# Altium footprint library Relay_THT.PcbLib: 117 footprints (part 7 of 8)
Each footprint in its own frame and in the unit in brackets; x right, y up, seen from the top. Pads: shape width x height; smd on the part's side, far side on the other; paste and mask are expansions set on the pad; w line width, h text height; cw(c..) or ccw(c..) is an arc to the next point about the centre after c.
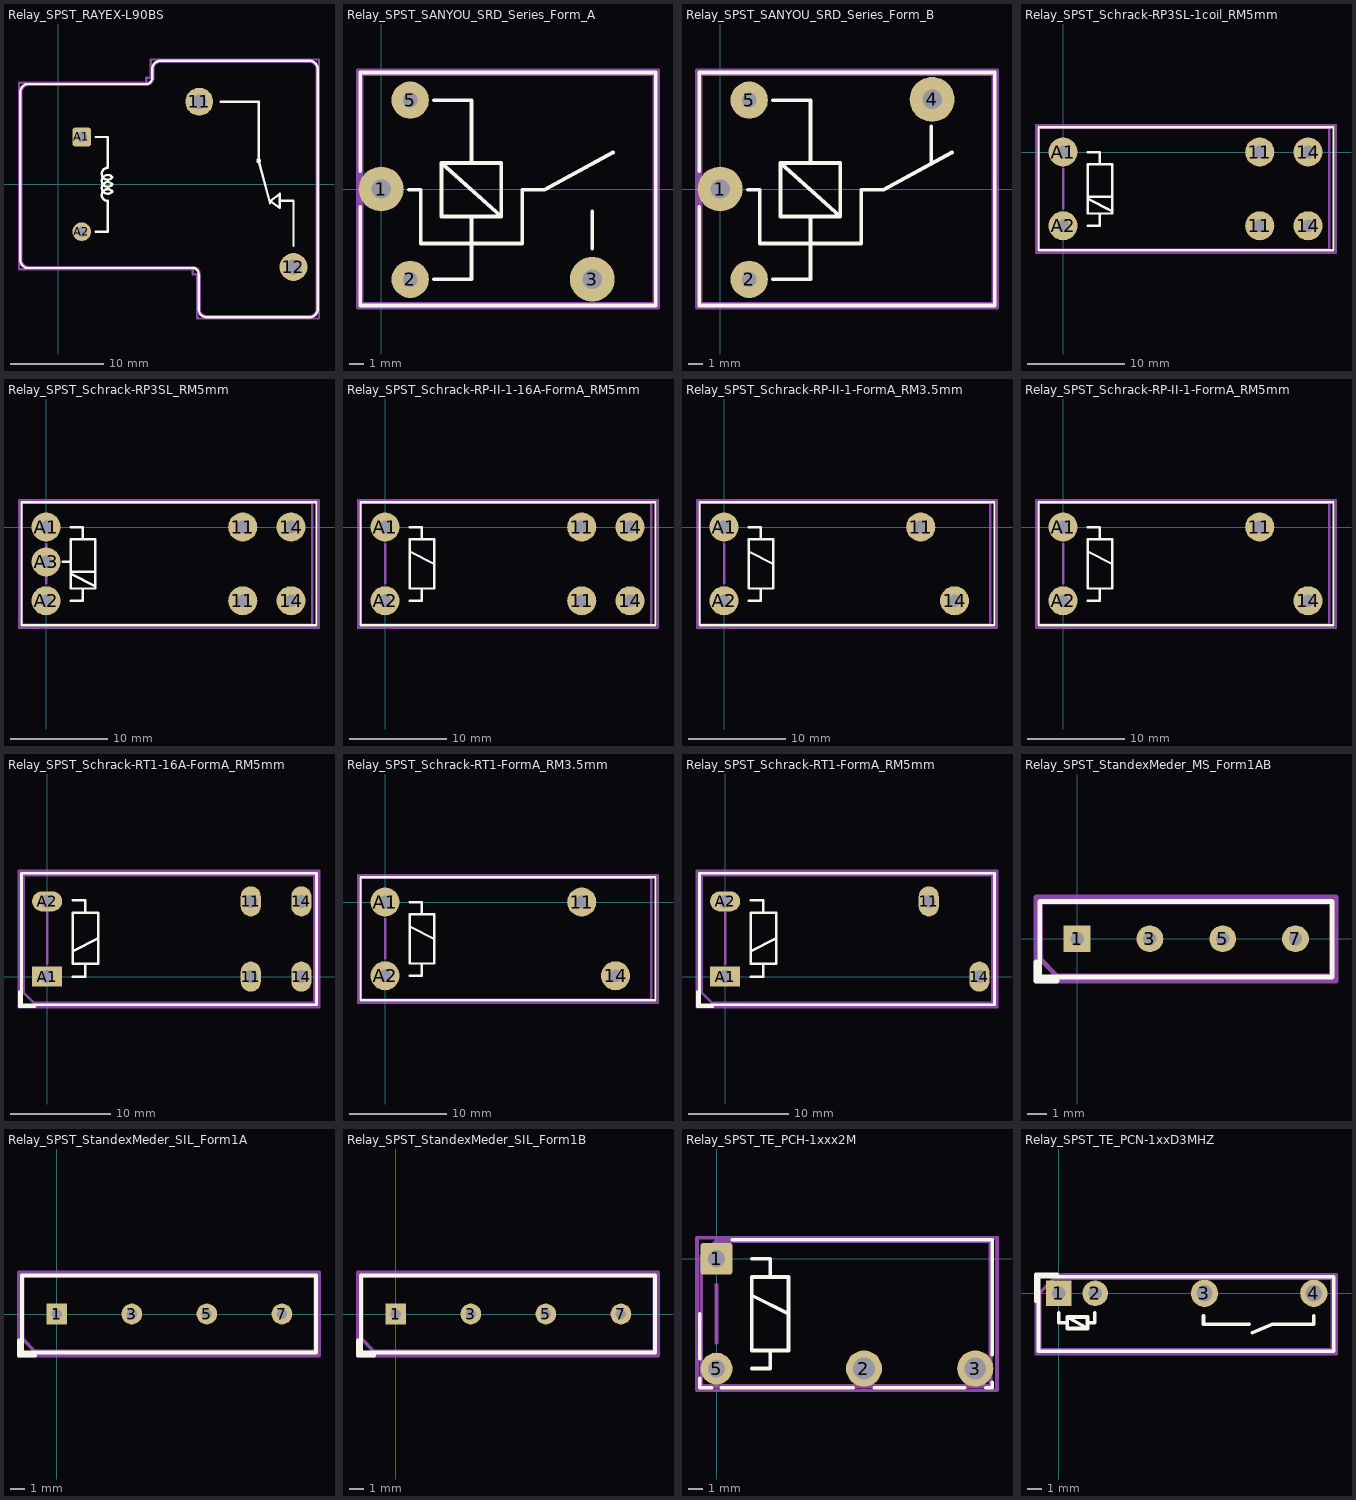
[diagram p6: the footprints below, top view; thin cyan lines are the x and y axes]

## Relay_SPST_RAYEX-L90BS [mm]
pads (4):
  round 3 hole 1.6: 11(15.2,8.9) 12(25.34,-8.9)
  rrect25% 2x2 hole 1.1: A1(2.54,5.1)
  round 2 hole 1.1: A2(2.54,-5.1)
F.SilkS:
  circle w0.254: c21.59,2.54 r0.127
  lines w0.254: 4.064,-5.105 5.334,-5.105 5.334,-1.778 cw(c5.334,-1.143) 5.842,-0.762 cw(c5.334,-0.381) 5.842,0 cw(c5.334,0.381) 5.842,0.762 cw(c5.334,1.143) 5.334,1.778 5.334,5.105 4.064,5.105 ; 17.526,8.9 21.59,8.9 21.59,2.54 22.809,-2.032 ; 23.876,-1.778 25.34,-1.778 25.34,-6.604 ; -4.07,-8.14 ccw(c-3.2,-8.14) -3.2,-9.01 14.48,-9.01 cw(c14.48,-9.66) 15.13,-9.66 15.13,-13.44 ccw(c16,-13.44) 16,-14.31 27.08,-14.31 ccw(c27.08,-13.44) 27.95,-13.44 27.95,12.44 ccw(c27.08,12.44) 27.08,13.31 11,13.31 ccw(c11,12.44) 10.13,12.44 10.13,11.46 cw(c9.48,11.46) 9.48,10.81 -3.2,10.81 ccw(c-3.2,9.94) -4.07,9.94 -4.07,-8.14 ; 22.86,-1.778 23.876,-2.54 23.876,-1.016 22.86,-1.778
F.Fab:
  lines w0.254: -3.96,-8.14 ccw(c-3.2,-8.14) -3.2,-8.9 14.48,-8.9 cw(c14.48,-9.66) 15.24,-9.66 15.24,-13.44 ccw(c16,-13.44) 16,-14.2 27.08,-14.2 ccw(c27.08,-13.44) 27.84,-13.44 27.84,12.44 ccw(c27.08,12.44) 27.08,13.2 11,13.2 ccw(c11,12.44) 10.24,12.44 10.24,11.46 cw(c9.48,11.46) 9.48,10.7 -3.2,10.7 ccw(c-3.2,9.94) -3.96,9.94 -3.96,-8.14
  text "'.Designator'" at 8.348,-0.84 h1
F.CrtYd:
  lines w0.254: -4.21,-9.15 14.48,-9.15 14.48,-9.66 14.99,-9.66 14.99,-14.45 28.09,-14.45 28.09,13.45 9.99,13.45 9.99,11.46 9.48,11.46 9.48,10.95 -4.21,10.95 -4.21,-9.15

## Relay_SPST_SANYOU_SRD_Series_Form_A [mm]
pads (4):
  round 3 hole 1.3: 1(0,0) 3(14.15,-6.05)
  round 2.5 hole 1: 2(1.95,-6.05) 5(1.95,5.95)
F.SilkS:
  lines w0.254: -1.4,-1.2 -1.4,-7.8 18.4,-7.8 18.4,7.8 -1.4,7.8 -1.4,1.2 ; 1.85,-0.05 2.65,-0.05 2.65,-3.65 9.45,-3.65 9.45,-0.05 10.95,-0.05 15.55,2.45 ; 3.55,-6.05 6.05,-6.05 6.05,-1.85 ; 3.55,5.95 6.05,5.95 6.05,1.75 ; 14.15,-4 14.15,-1.5 ; 4.05,1.75 8.05,1.75 8.05,-1.85 ; 4.05,1.75 4.05,-1.85 8.05,-1.85 ; 4.05,1.75 8.05,-1.85
F.Fab:
  lines w0.254: -1.3,-7.7 -1.3,7.7 18.3,7.7 18.3,-7.7 -1.3,-7.7
  text "1" at -0.269,1.65 h1
  text "'.Designator'" at 3.053,-0.865 h1
F.CrtYd:
  lines w0.254: -1.55,-7.95 -1.55,7.95 18.55,7.95 18.55,-7.95 -1.55,-7.95
3D body "Relay_SPST_SANYOU_SRD_Series_Form_A.step": height 15.6, standoff -3.4, extent -1.3,-7.7 18.3,7.7

## Relay_SPST_SANYOU_SRD_Series_Form_B [mm]
pads (4):
  round 3 hole 1.3: 1(0,0) 4(14.2,6)
  round 2.5 hole 1: 2(1.95,-6.05) 5(1.95,5.95)
F.SilkS:
  lines w0.254: -1.4,-1.2 -1.4,-7.8 18.4,-7.8 18.4,7.8 -1.4,7.8 -1.4,1.2 ; 1.85,-0.05 2.65,-0.05 2.65,-3.65 9.45,-3.65 9.45,-0.05 10.95,-0.05 15.55,2.45 ; 3.55,-6.05 6.05,-6.05 6.05,-1.85 ; 3.55,5.95 6.05,5.95 6.05,1.75 ; 14.15,1.7 14.15,4.2 ; 4.05,1.75 8.05,1.75 8.05,-1.85 ; 4.05,1.75 4.05,-1.85 8.05,-1.85 ; 4.05,1.75 8.05,-1.85
F.Fab:
  lines w0.254: -1.3,-7.7 -1.3,7.7 18.3,7.7 18.3,-7.7 -1.3,-7.7
  text "'.Designator'" at 3.053,-0.865 h1
  text "1" at -0.269,1.65 h1
F.CrtYd:
  lines w0.254: -1.55,-7.95 -1.55,7.95 18.55,7.95 18.55,-7.95 -1.55,-7.95
3D body "Relay_SPST_SANYOU_SRD_Series_Form_B.step": height 15.6, standoff -3.4, extent -1.3,-7.7 18.3,7.7

## Relay_SPST_Schrack-RP3SL-1coil_RM5mm [mm]
pads (6):
  round 3 hole 1.3: 11(20.32,-7.62) 11(20.32,0) 14(25.32,-7.62) 14(25.32,0) A1(0,0) A2(0,-7.62)
F.SilkS:
  lines w0.254: 2.54,-7.62 3.81,-7.62 3.81,-6.35 ; 2.54,-4.84 5.08,-6.11 ; 2.54,0 3.81,0 3.81,-1.27 ; 2.6,-4.6 5,-4.6 ; 3.81,-1.27 5.08,-1.27 5.08,-6.35 2.54,-6.35 2.54,-1.27 3.81,-1.27 ; -2.54,-10.16 27.94,-10.16 27.94,2.54 -2.54,2.54 -2.54,-10.16
F.Fab:
  lines w0.254: 0,-5.8 0,-1.8 ; -2.5,-10.1 27.5,-10.1 27.5,2.5 -2.5,2.5 -2.5,-10.1
  text "'.Designator'" at 8.018,-4.65 h1
F.CrtYd:
  lines w0.254: -2.8,-10.42 28.2,-10.42 28.2,2.78 -2.8,2.78 -2.8,-10.42

## Relay_SPST_Schrack-RP3SL_RM5mm [mm]
pads (7):
  round 3 hole 1.3: 11(20.32,-7.62) 11(20.32,0) 14(25.32,-7.62) 14(25.32,0) A1(0,0) A2(0,-7.62) A3(0,-3.6)
F.SilkS:
  lines w0.254: 1.7,-3.6 2.5,-3.6 ; 2.54,-7.62 3.81,-7.62 3.81,-6.35 ; 2.54,-4.84 5.08,-6.11 ; 2.54,0 3.81,0 3.81,-1.27 ; 2.6,-4.6 5,-4.6 ; 3.81,-1.27 2.54,-1.27 2.54,-6.35 5.08,-6.35 5.08,-1.27 3.81,-1.27 ; -2.54,-10.16 -2.54,2.54 27.94,2.54 27.94,-10.16 -2.54,-10.16
F.Fab:
  lines w0.254: 0,-5.8 0,-1.8 ; -2.5,-10.1 -2.5,2.5 27.5,2.5 27.5,-10.1 -2.5,-10.1
  text "'.Designator'" at 8.018,-4.65 h1
F.CrtYd:
  lines w0.254: -2.8,-10.42 -2.8,2.78 28.2,2.78 28.2,-10.42 -2.8,-10.42

## Relay_SPST_Schrack-RP-II-1-16A-FormA_RM5mm [mm]
pads (6):
  round 3 hole 1.3: 11(20.32,-7.62) 11(20.32,0) 14(25.32,-7.62) 14(25.32,0) A1(0,0) A2(0,-7.62)
F.SilkS:
  lines w0.254: 2.54,-7.62 3.81,-7.62 3.81,-6.35 ; 2.54,-2.54 5.08,-3.81 ; 2.54,0 3.81,0 3.81,-1.27 ; 3.81,-1.27 2.54,-1.27 2.54,-6.35 5.08,-6.35 5.08,-1.27 3.81,-1.27 ; -2.54,-10.16 -2.54,2.54 27.94,2.54 27.94,-10.16 -2.54,-10.16
F.Fab:
  lines w0.254: 0,-5.8 0,-1.8 ; -2.5,-10.1 -2.5,2.5 27.5,2.5 27.5,-10.1 -2.5,-10.1
  text "'.Designator'" at 8.018,-4.65 h1
F.CrtYd:
  lines w0.254: -2.8,-10.42 -2.8,2.78 28.2,2.78 28.2,-10.42 -2.8,-10.42

## Relay_SPST_Schrack-RP-II-1-FormA_RM3.5mm [mm]
pads (4):
  round 3 hole 1.3: 11(20.32,0) 14(23.82,-7.62) A1(0,0) A2(0,-7.62)
F.SilkS:
  lines w0.254: 2.54,-7.62 3.81,-7.62 3.81,-6.35 ; 2.54,-2.54 5.08,-3.81 ; 2.54,0 3.81,0 3.81,-1.27 ; 3.81,-1.27 2.54,-1.27 2.54,-6.35 5.08,-6.35 5.08,-1.27 3.81,-1.27 ; -2.54,-10.16 -2.54,2.54 27.94,2.54 27.94,-10.16 -2.54,-10.16
F.Fab:
  lines w0.254: 0,-5.8 0,-1.8 ; -2.5,-10.1 -2.5,2.5 27.5,2.5 27.5,-10.1 -2.5,-10.1
  text "'.Designator'" at 8.018,-4.65 h1
F.CrtYd:
  lines w0.254: -2.8,-10.42 -2.8,2.78 28.2,2.78 28.2,-10.42 -2.8,-10.42

## Relay_SPST_Schrack-RP-II-1-FormA_RM5mm [mm]
pads (4):
  round 3 hole 1.3: 11(20.32,0) 14(25.32,-7.62) A1(0,0) A2(0,-7.62)
F.SilkS:
  lines w0.254: 2.54,-7.62 3.81,-7.62 3.81,-6.35 ; 2.54,-2.54 5.08,-3.81 ; 2.54,0 3.81,0 3.81,-1.27 ; 3.81,-1.27 5.08,-1.27 5.08,-6.35 2.54,-6.35 2.54,-1.27 3.81,-1.27 ; -2.54,-10.16 27.94,-10.16 27.94,2.54 -2.54,2.54 -2.54,-10.16
F.Fab:
  lines w0.254: 0,-5.8 0,-1.8 ; -2.5,-10.1 27.5,-10.1 27.5,2.5 -2.5,2.5 -2.5,-10.1
  text "'.Designator'" at 8.018,-4.65 h1
F.CrtYd:
  lines w0.254: -2.8,-10.42 28.2,-10.42 28.2,2.78 -2.8,2.78 -2.8,-10.42

## Relay_SPST_Schrack-RT1-16A-FormA_RM5mm [mm]
pads (6):
  rrect100% 2x3 hole 1.3: 11(20.3,0) 11(20.3,7.5) 14(25.34,0) 14(25.34,7.5)
  rect 3x2 hole 1.3: A1(0,0)
  rrect100% 3x2 hole 1.3: A2(0,7.5)
F.SilkS:
  lines w0.254: -2.75,-1.5 -2.75,-3 -1.25,-3 ; 2.54,0 3.81,0 3.81,1.27 ; 2.54,2.54 5.08,3.81 ; 2.54,7.62 3.81,7.62 3.81,6.35 ; 3.81,1.27 2.54,1.27 2.54,6.35 5.08,6.35 5.08,1.27 3.81,1.27 ; -2.55,-2.8 -2.55,10.3 26.85,10.3 26.85,-2.8 -2.55,-2.8
F.Fab:
  lines w0.254: 0,1.27 0,6.35 ; -2.35,-1.6 -2.35,10.1 26.65,10.1 26.65,-2.6 -1.35,-2.6 -2.35,-1.6
  text "'.Designator'" at 8.018,2.97 h1
F.CrtYd:
  lines w0.254: -2.8,-3.05 -2.8,10.55 27.1,10.55 27.1,-3.05 -2.8,-3.05
3D body "Relay_SPST_Schrack-RT1-16A-FormA_RM5mm.step": height 15.7, standoff -5.3, extent -2.35,-2.6 26.65,10.1

## Relay_SPST_Schrack-RT1-FormA_RM3.5mm [mm]
pads (4):
  round 3 hole 1.3: 11(20.32,0) 14(23.82,-7.62) A1(0,0) A2(0,-7.62)
F.SilkS:
  lines w0.254: 2.54,-7.62 3.81,-7.62 3.81,-6.35 ; 2.54,-2.54 5.08,-3.81 ; 2.54,0 3.81,0 3.81,-1.27 ; 3.81,-1.27 5.08,-1.27 5.08,-6.35 2.54,-6.35 2.54,-1.27 3.81,-1.27 ; -2.54,-10.16 27.94,-10.16 27.94,2.54 -2.54,2.54 -2.54,-10.16
F.Fab:
  lines w0.254: 0,-5.8 0,-1.8 ; -2.5,-10.1 27.5,-10.1 27.5,2.5 -2.5,2.5 -2.5,-10.1
  text "'.Designator'" at 8.018,-4.65 h1
F.CrtYd:
  lines w0.254: -2.8,-10.42 28.2,-10.42 28.2,2.78 -2.8,2.78 -2.8,-10.42

## Relay_SPST_Schrack-RT1-FormA_RM5mm [mm]
pads (4):
  rrect100% 2x3 hole 1.3: 11(20.3,7.5) 14(25.34,0)
  rect 3x2 hole 1.3: A1(0,0)
  rrect100% 3x2 hole 1.3: A2(0,7.5)
F.SilkS:
  lines w0.254: -2.75,-1.5 -2.75,-3 -1.25,-3 ; 2.54,0 3.81,0 3.81,1.27 ; 2.54,2.54 5.08,3.81 ; 2.54,7.62 3.81,7.62 3.81,6.35 ; 3.81,1.27 2.54,1.27 2.54,6.35 5.08,6.35 5.08,1.27 3.81,1.27 ; -2.55,-2.8 -2.55,10.3 26.85,10.3 26.85,-2.8 -2.55,-2.8
F.Fab:
  lines w0.254: 0,1.27 0,6.35 ; -2.35,-1.6 -2.35,10.1 26.65,10.1 26.65,-2.6 -1.35,-2.6 -2.35,-1.6
  text "'.Designator'" at 8.018,2.97 h1
F.CrtYd:
  lines w0.254: -2.8,-3.05 -2.8,10.55 27.1,10.55 27.1,-3.05 -2.8,-3.05
3D body "Relay_SPST_Schrack-RT1-FormA_RM5mm.step": height 15.7, standoff -5.3, extent -2.35,-2.6 26.65,10.1

## Relay_SPST_StandexMeder_MS_Form1AB [mm]
pads (4):
  rect 1.4x1.4 hole 0.7: 1(0,0)
  round 1.4 hole 0.7: 3(3.81,0) 5(7.62,0) 7(11.43,0)
F.SilkS:
  lines w0.254: -2.15,-1.2 -2.15,-2.2 -1.05,-2.2 ; -1.95,-2 -1.95,1.95 13.35,1.95 13.35,-2 -1.95,-2
F.Fab:
  lines w0.254: -1.9,1.9 -1.9,-1.067 -1.1,-1.917 13.3,-1.95 13.3,1.9 -1.9,1.933
  text "'.Designator'" at 1.653,-0.84 h1
F.CrtYd:
  lines w0.254: -2.15,-2.2 -2.15,2.18 13.55,2.18 13.55,-2.2 -2.15,-2.2
3D body "Relay_SPST_StandexMeder_MS_Form1AB.step": height 7.1, standoff -3.2, extent -1.885,-1.905 13.315,1.905

## Relay_SPST_StandexMeder_SIL_Form1A [mm]
pads (4):
  rect 1.4x1.4 hole 0.7: 1(0,0)
  round 1.4 hole 0.7: 3(5.08,0) 5(10.16,0) 7(15.24,0)
F.SilkS:
  lines w0.254: -2.55,-1.8 -2.55,-2.8 -1.45,-2.8 ; -2.35,-2.6 -2.35,2.6 17.55,2.6 17.55,-2.6 -2.35,-2.6
F.Fab:
  lines w0.254: -2.3,-1.667 -2.3,2.583 17.5,2.583 17.5,-2.517 -1.5,-2.517 -2.3,-1.667
  text "'.Designator'" at 3.703,-0.84 h1
F.CrtYd:
  lines w0.254: -2.55,-2.8 -2.55,2.8 17.75,2.8 17.75,-2.8 -2.55,-2.8
3D body "Relay_SPST_StandexMeder_SIL_Form1A.step": height 8.2, standoff -3.51, extent -2.28,-2.54 17.52,2.54

## Relay_SPST_StandexMeder_SIL_Form1B [mm]
pads (4):
  rect 1.4x1.4 hole 0.7: 1(0,0)
  round 1.4 hole 0.7: 3(5.08,0) 5(10.16,0) 7(15.24,0)
F.SilkS:
  lines w0.254: -2.55,-1.8 -2.55,-2.8 -1.45,-2.8 ; -2.35,-2.6 -2.35,2.6 17.55,2.6 17.55,-2.6 -2.35,-2.6
F.Fab:
  lines w0.254: -2.3,-1.667 -2.3,2.583 17.5,2.583 17.5,-2.517 -1.5,-2.517 -2.3,-1.667
  text "'.Designator'" at 3.703,-0.84 h1
F.CrtYd:
  lines w0.254: -2.55,-2.8 -2.55,2.8 17.75,2.8 17.75,-2.8 -2.55,-2.8
3D body "Relay_SPST_StandexMeder_SIL_Form1B.step": height 8.2, standoff -3.51, extent -2.28,-2.54 17.52,2.54

## Relay_SPST_TE_PCH-1xxx2M [mm]
pads (4):
  rrect16% 2.2x2.2 hole 1.2: 1(0,0)
  round 2.5 hole 1.5: 2(10.2,-7.6) 3(17.9,-7.6)
  round 2.2 hole 1.2: 5(0,-7.6)
F.SilkS:
  lines w0.254: -1.17,-8.29 -1.17,-8.92 -0.33,-8.92 ; -1.17,-6.9 -1.17,-3.8 ; 0.33,-8.92 9.46,-8.92 ; 1.11,1.32 19.07,1.32 19.07,-6.64 ; 2.44,-7.6 3.71,-7.6 3.71,-6.35 ; 2.44,-2.54 4.98,-3.81 ; 2.44,0 3.71,0 3.71,-1.27 ; 10.93,-8.92 17.16,-8.92 ; 18.63,-8.92 19.07,-8.92 19.07,-8.55 ; 3.71,-1.27 4.98,-1.27 4.98,-6.35 2.44,-6.35 2.44,-1.27 3.71,-1.27
F.Fab:
  lines w0.254: 0,-5.8 0,-1.8 ; -1.05,-8.8 18.95,-8.8 18.95,1.2 -0.05,1.2 -1.05,0.2 -1.05,-8.8
  text "'.Designator'" at 4.903,-4.64 h1
F.CrtYd:
  lines w0.254: -1.35,-9.1 19.4,-9.1 19.4,1.45 -1.35,1.45 -1.35,-9.1

## Relay_SPST_TE_PCN-1xxD3MHZ [mm]
pads (4):
  rect 1.778x1.778 hole 0.95: 1(0,0)
  round 1.778 hole 0.95: 2(2.54,0)
  round 1.9 hole 1.15: 3(10.16,0) 4(17.78,0)
F.SilkS:
  lines w0.254: -1.59,-0.53 -1.59,1.32 -0.1,1.32 ; 0,-1.35 0,-2.05 0.6,-2.05 ; 2,-2.05 2.5,-2.05 2.5,-1.35 ; 10.09,-1.55 10.09,-2.15 13.29,-2.15 ; 13.49,-2.75 14.89,-2.15 17.79,-2.15 17.79,-1.55 ; 0.6,-2.05 0.6,-1.65 ; 0.6,-2.05 0.6,-2.45 2,-2.45 ; 0.6,-1.65 2,-1.65 2,-2.45 ; 0.6,-1.65 2,-2.45 ; -1.42,-4.05 -1.42,1.15 19.18,1.15 19.18,-4.05 -1.42,-4.05
F.Fab:
  lines w0.254: -1.32,-3.95 -1.32,0.04 -0.32,1.05 19.08,1.05 19.08,-3.95 -1.32,-3.95
  text "'.Designator'" at 4.703,-2.37 h1
  text "1" at -0.669,-2.6 h1
F.CrtYd:
  lines w0.254: -1.57,-4.2 -1.57,1.3 19.33,1.3 19.33,-4.2 -1.57,-4.2